# EAGLE library part MC33926 (library odroid_shield)
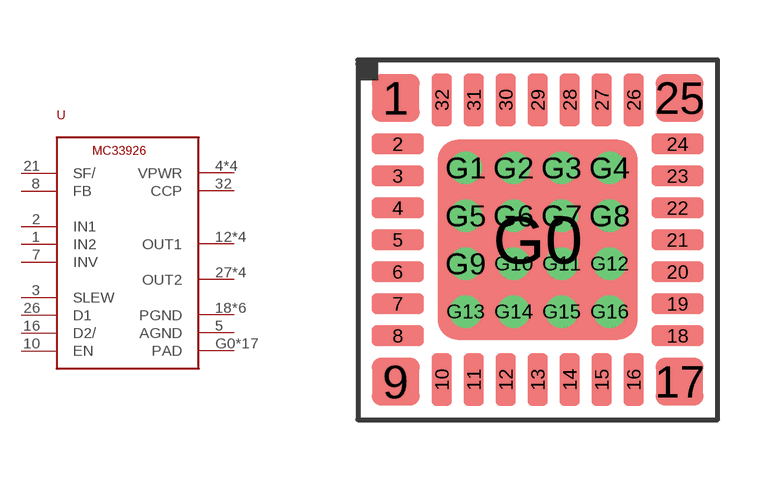
[diagram p4: symbol with the pads of PQFN32; footprint PQFN32]

Designator prefix -

## MC33926  [PQFN32]
1  IN2
2  IN1
3  SLEW
4  VPWR
5  AGND
6  VPWR
7  INV
8  FB
10  EN
11  VPWR
12  OUT1
13  OUT1
14  OUT1
15  OUT1
16  D2/
18  PGND
19  PGND
20  PGND
21  SF/
22  PGND
23  PGND
24  PGND
26  D1
27  OUT2
28  OUT2
29  OUT2
30  OUT2
31  VPWR
32  CCP
G0  PAD
G1  PAD
G2  PAD
G3  PAD
G4  PAD
G5  PAD
G6  PAD
G7  PAD
G8  PAD
G9  PAD
G10  PAD
G11  PAD
G12  PAD
G13  PAD
G14  PAD
G15  PAD
G16  PAD

## Footprint PQFN32 (pad centres in mm)
smd 1.2 x 1.2: 1 -3.55,3.55; 9 -3.55,-3.55; 17 3.55,-3.55; 25 3.55,3.55
smd 1.3 x 0.5: 2 -3.5,2.4; 3 -3.5,1.6; 4 -3.5,0.8; 5 -3.5,0; 6 -3.5,-0.8; 7 -3.5,-1.6; 8 -3.5,-2.4; 18 3.5,-2.4; 19 3.5,-1.6; 20 3.5,-0.8; 21 3.5,0; 22 3.5,0.8; 23 3.5,1.6; 24 3.5,2.4
smd 0.5 x 1.3: 10 -2.4,-3.5; 11 -1.6,-3.5; 12 -0.8,-3.5; 13 0,-3.5; 14 0.8,-3.5; 15 1.6,-3.5; 16 2.4,-3.5; 26 2.4,3.5; 27 1.6,3.5; 28 0.8,3.5; 29 0,3.5; 30 -0.8,3.5; 31 -1.6,3.5; 32 -2.4,3.5
smd 5 x 5: G0 0,0
drill 0.305: G1 -1.8,1.8; G2 -0.6,1.8; G3 0.6,1.8; G4 1.8,1.8; G5 -1.8,0.6; G6 -0.6,0.6; G7 0.6,0.6; G8 1.8,0.6; G9 -1.8,-0.6; G10 -0.6,-0.6; G11 0.6,-0.6; G12 1.8,-0.6; G13 -1.8,-1.8; G14 -0.6,-1.8; G15 0.6,-1.8; G16 1.8,-1.8